# Altium footprint library 32768hz.PcbLib: 2 footprints
Each footprint in its own frame and in the unit in brackets; x right, y up, seen from the top. Pads: shape width x height; smd on the part's side, far side on the other; paste and mask are expansions set on the pad; w line width, h text height; cw(c..) or ccw(c..) is an arc to the next point about the centre after c.
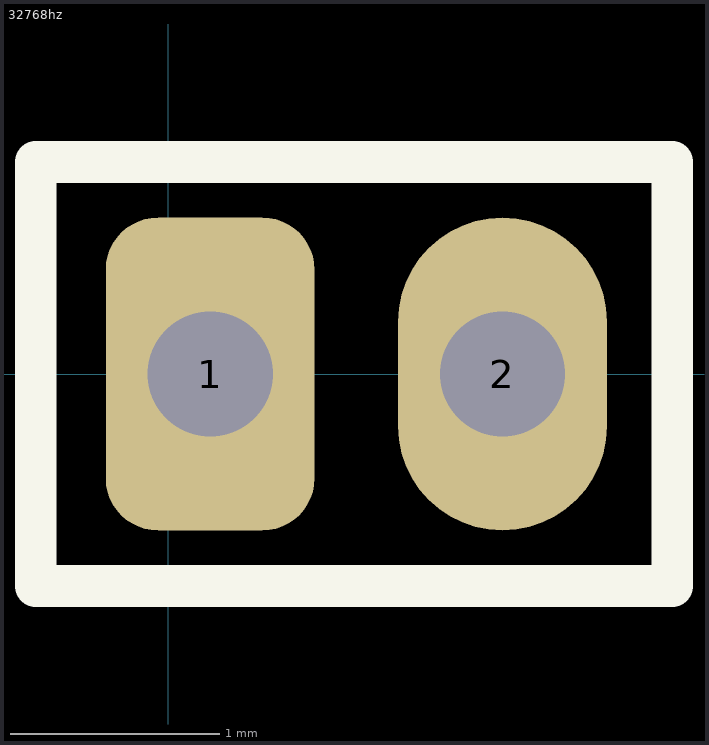
[diagram p0: the footprints below, top view; thin cyan lines are the x and y axes]

## 32768hz [mm]
pads (2):
  rrect50% 1x1.5 hole 0.6: 1(0.2,0)
  oval 1x1.5 hole 0.6: 2(1.6,0)
Top Overlay:
  lines w0.2: -0.635,-1.016 -0.635,1.016 2.413,1.016 2.413,0.162 2.413,-1.016 -0.635,-1.016
3D body: height 2.2, standoff -1.8, extent -0.127,-6.872 1.873,0.268

## PCBComponent_1 [mm]